# Altium schematic symbol library Sensor_Distance.SchLib: 1 symbol
Pins are listed as number, name and electrical type; pins without a type are passive.

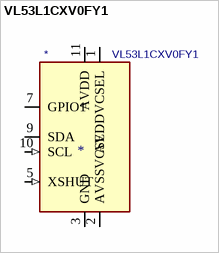
[diagram p0: symbol VL53L1CXV0FY1]

## VL53L1CXV0FY1
designator *  value VL53L1CXV0FY1
ki_keywords: VL53L1x ToF; ki_description: 4m distance ranging ToF sensor; ki_fp_filters: ST*VL53L1x*; Footprint: Sensor_Distance:ST_VL53L1x; Supplier: https://www.st.com/resource/en/datasheet/vl53l1x.pdf
footprint ST_VL53L1x
pins: 1 AVDDVCSEL (power), 2 AVSSVCSEL (power), 3 GND (power), 4 GND hidden, 5 XSHUT (in), 6 GND hidden, 7 GPIO1 (oc), 8 DNC (in) hidden, 9 SDA (io), 10 SCL (in), 11 AVDD (power), 12 GND hidden